# Altium integrated library DESD3V3S1BL-7B.IntLib: 1 symbol
Pins are listed as number, name and electrical type; pins without a type are passive.

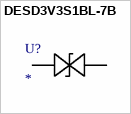
[diagram p0: symbol DESD3V3S1BL-7B]

## DESD3V3S1BL-7B
designator U?
No Description Available; Mfr_Name: Diodes Inc
footprint X1-DFN1006-2_RH_DIO
pins: 1, 2